# Altium footprint library PcbLib.PcbLib: 26 footprints (part 1 of 2)
Each footprint in its own frame and in the unit in brackets; x right, y up, seen from the top. Pads: shape width x height; smd on the part's side, far side on the other; paste and mask are expansions set on the pad; w line width, h text height; cw(c..) or ccw(c..) is an arc to the next point about the centre after c.
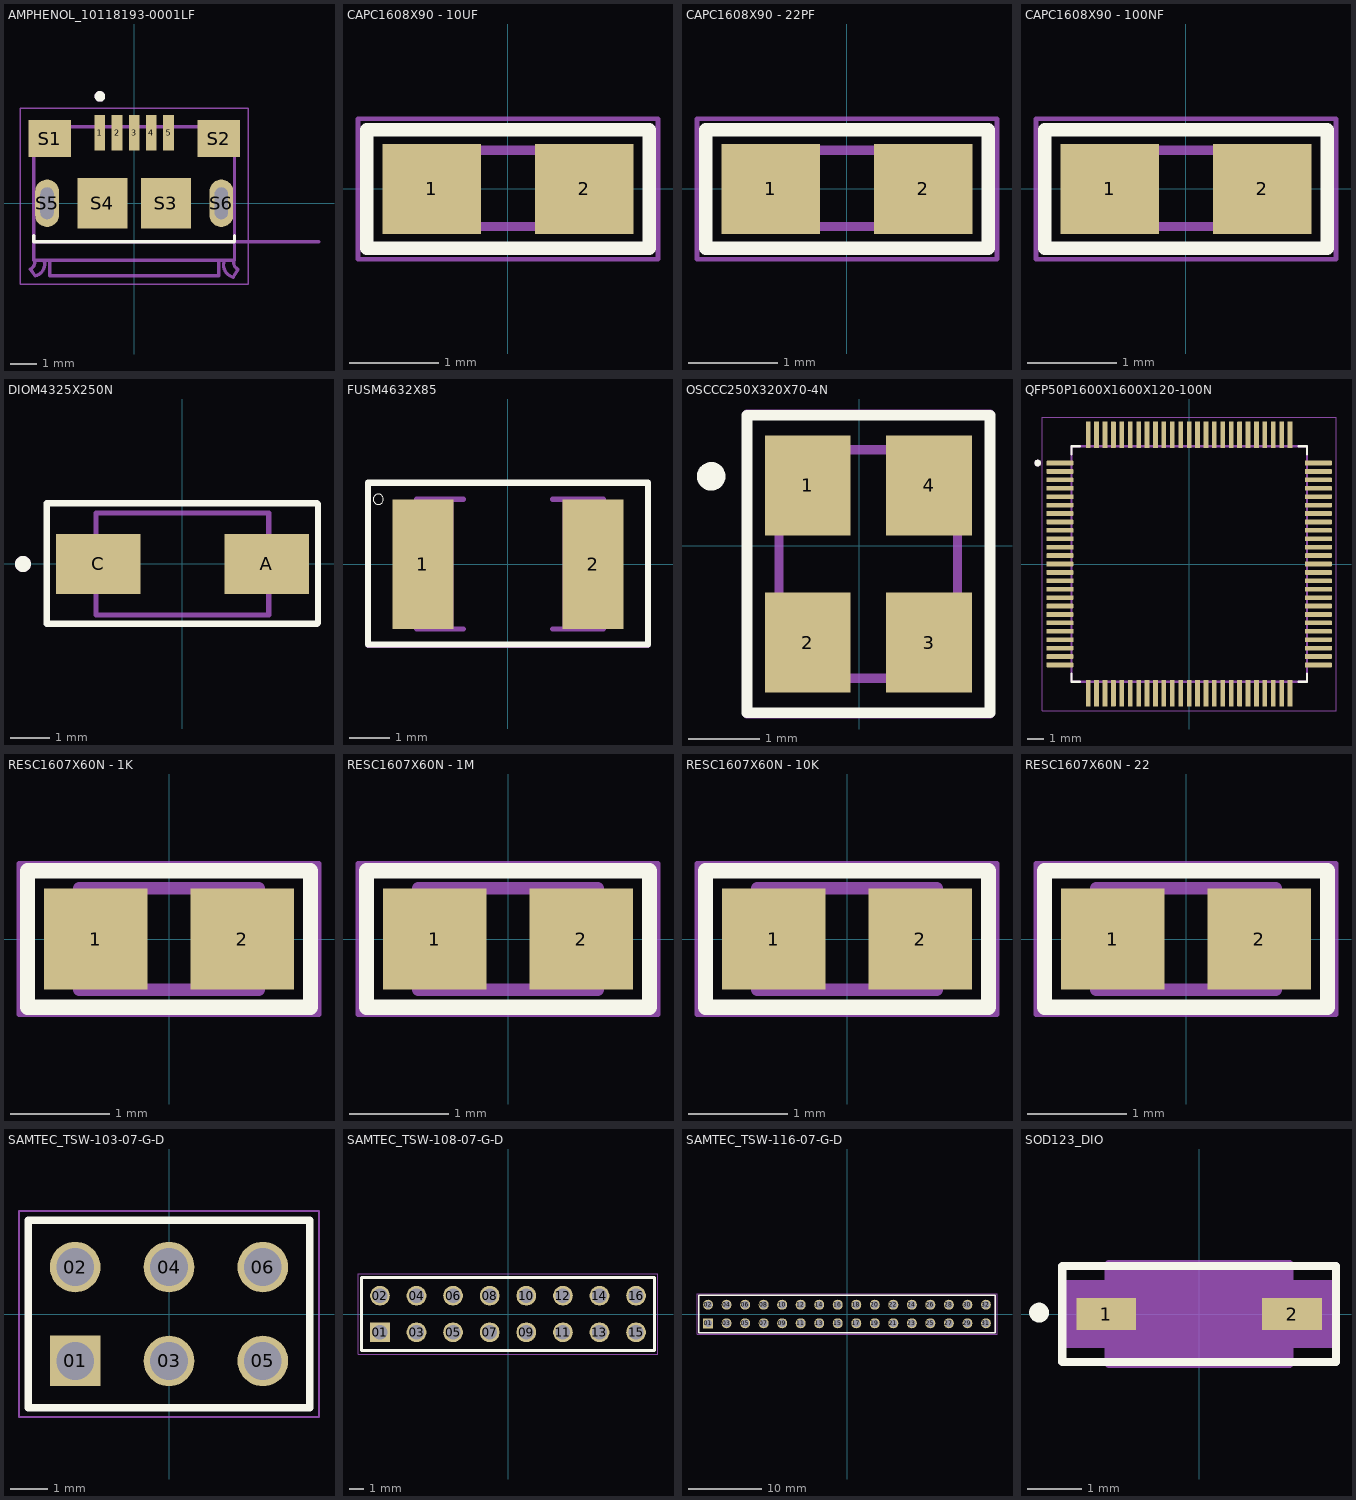
[diagram p0: the footprints below, top view; thin cyan lines are the x and y axes]

## AMPHENOL_10118193-0001LF [mm]
height 2.55
pads (11):
  rect 0.4x1.35 smd: 1(-1.3,2.675) 2(-0.65,2.675) 3(0,2.675) 4(0.65,2.675) 5(1.3,2.675)
  rect 1.6x1.4 smd: S1(-3.2,2.45) S2(3.2,2.45)
  rect 1.9x1.9 smd: S3(1.2,0) S4(-1.2,0)
  oval 0.9x1.8 hole 0.5 slot 1.2 at 90 deg: S5(-3.3,0) S6(3.3,0)
Top Overlay:
  circle w0.2: c-1.3,4.05 r0.1
  lines w0.127: -3.8,-1.22 -3.8,-1.45 3.8,-1.45 3.8,-1.22
Mechanical 13:
  circle w0.2: c-1.3,4.05 r0.1
  lines w0.127: -3.93,-2.5 -3.75,-2.75 ; -3.93,-2.5 ccw(c-4.065,-2.235) -3.8,-2.1 ; -3.8,-1.45 3.8,-1.45 ; -3.746,-2.749 ccw(c-3.85,-2.3) -3.401,-2.196 ; -3.2,-2.2 -3.2,-2.75 3.2,-2.75 3.2,-2.2 ; 3.401,-2.198 ccw(c3.875,-2.325) 3.748,-2.799 ; 3.75,-2.8 3.93,-2.5 ; 3.8,-2.1 ccw(c4.065,-2.235) 3.93,-2.5 ; 7,-1.45 3.8,-1.45 ; -3.8,-2.1 -3.8,-2.15 3.8,-2.15 3.8,-1.45 ; -3.8,-2.1 -3.8,2.9 3.8,2.9 3.8,-1.45
  text "PCB END" at 4.85,-1.2 h0.41
Mechanical 15:
  lines w0.05: -4.32,-3.066 -4.32,3.6 4.32,3.6 4.32,-3.066 -4.32,-3.066
3D body "10118193-0001LF--3DModel.STEP": height 2.85, standoff -0.75, extent -3.93,-2.76 3.93,2.95

## CAPC1608X90 - 10UF [mm]
pads (2):
  rect 1.1x1 smd: 1(-0.85,0) 2(0.85,0)
Top Overlay:
  lines w0.152: -1.575,-0.66 1.575,-0.66 1.575,0.66 -1.575,0.66 -1.575,-0.66
Mechanical 13:
  region: -0.338,-0.47 -0.839,-0.47 -0.839,0.48 -0.338,0.48
  region: 0.83,-0.471 0.331,-0.471 0.331,0.48 0.83,0.48
  lines w0.102: -0.356,-0.419 0.356,-0.419 ; -0.356,0.432 0.356,0.432
Mechanical 15:
  lines w0.051: -1.673,-0.783 1.673,-0.783 1.673,0.783 -1.673,0.783 -1.673,-0.783
3D body "CC0603MRX5R6BB106--3DModel.STEP": height 0.81, standoff 0.01, extent -0.808,-0.443 0.792,0.457

## CAPC1608X90 - 22PF [mm]
pads (2):
  rect 1.1x1 smd: 1(-0.85,0) 2(0.85,0)
Top Overlay:
  lines w0.152: -1.575,-0.66 1.575,-0.66 1.575,0.66 -1.575,0.66 -1.575,-0.66
Mechanical 13:
  region: -0.338,-0.471 -0.84,-0.471 -0.84,0.48 -0.338,0.48
  region: 0.83,-0.47 0.33,-0.47 0.33,0.48 0.83,0.48
  lines w0.102: -0.356,-0.419 0.356,-0.419 ; -0.356,0.432 0.356,0.432
Mechanical 15:
  lines w0.051: -1.673,-0.783 1.673,-0.783 1.673,0.783 -1.673,0.783 -1.673,-0.783
3D body "CC0603JRNPO9BN220--3DModel.STEP": height 0.81, standoff 0.01, extent -0.8,-0.443 0.8,0.457

## CAPC1608X90 - 100NF [mm]
pads (2):
  rect 1.1x1 smd: 1(-0.85,0) 2(0.85,0)
Top Overlay:
  lines w0.152: -1.575,-0.66 1.575,-0.66 1.575,0.66 -1.575,0.66 -1.575,-0.66
Mechanical 13:
  region: -0.338,-0.47 -0.839,-0.47 -0.839,0.48 -0.338,0.48
  region: 0.83,-0.471 0.331,-0.471 0.331,0.48 0.83,0.48
  lines w0.102: -0.356,-0.419 0.356,-0.419 ; -0.356,0.432 0.356,0.432
Mechanical 15:
  lines w0.051: -1.673,-0.783 1.673,-0.783 1.673,0.783 -1.673,0.783 -1.673,-0.783
3D body "CC0603KRX7R9BB104--3DModel.STEP": height 0.9, standoff 0, extent -0.8,-0.4 0.8,0.4

## DIOM4325X250N [mm]
height 2.5
pads (2):
  rect 2.12x1.5 smd paste+0 mask+0.102: A(2.115,0) C(-2.115,0)
Top Overlay:
  circle w0.2: c-4,0 r0.1
  lines w0.152: -3.404,-1.499 3.378,-1.499 3.404,-1.473 3.404,1.499 3.378,1.524 -3.404,1.524 -3.404,-1.499
Mechanical 13:
  circle w0.2: c-4,0 r0.1
  lines w0.127: -2.165,-1.28 2.165,-1.28 2.165,1.28 -2.165,1.28 -2.165,-1.28
Mechanical 15:
  lines w0.05: -3.425,-1.53 3.425,-1.53 3.425,1.53 -3.425,1.53 -3.425,-1.53
3D body "SS14--3DModel.STEP": height 2.5, standoff 0, extent -2.57,-1.255 2.57,1.305

## FUSM4632X85 [mm]
pads (2):
  rect 1.5x3.2 smd: 1(-2.1,0) 2(2.1,0)
Top Overlay:
  circle w0: c-3.2,1.6 r0.127
  lines w0.152: -3.454,-1.981 -3.454,2.007 3.454,2.007 3.454,-1.981 -3.454,-1.981
Mechanical 13:
  region: 2.35,0.5 2.324,0.499 2.298,0.497 2.272,0.494 2.246,0.489 2.221,0.483 2.195,0.476 2.171,0.467 2.147,0.457 2.123,0.446 2.1,0.433 2.078,0.419 2.056,0.405 2.035,0.389 2.015,0.372 1.996,0.354 1.978,0.335 1.961,0.315 1.945,0.294 1.931,0.272 1.917,0.25 1.904,0.227 1.893,0.203 1.883,0.179 1.874,0.155 1.867,0.129 1.861,0.104 1.856,0.078 1.853,0.052 1.851,0.026 1.85,0 1.851,-0.026 1.853,-0.052 1.856,-0.078 1.861,-0.104 1.867,-0.129 1.874,-0.155 1.883,-0.179 1.893,-0.203 1.904,-0.227 1.917,-0.25 1.931,-0.272 1.945,-0.294 1.961,-0.315 1.978,-0.335 1.996,-0.354 2.015,-0.372 2.035,-0.389 2.056,-0.405 2.078,-0.419 2.1,-0.433 2.123,-0.446 2.147,-0.457 2.171,-0.467 2.195,-0.476 2.221,-0.483 2.246,-0.489 2.272,-0.494 2.298,-0.497 2.324,-0.499 2.35,-0.5 2.35,-1.6 1.35,-1.6 1.35,1.6 2.35,1.6
  region: -1.35,-1.6 -2.25,-1.6 -2.25,-0.5 -2.224,-0.499 -2.198,-0.497 -2.172,-0.494 -2.146,-0.489 -2.121,-0.483 -2.095,-0.476 -2.071,-0.467 -2.047,-0.457 -2.023,-0.446 -2,-0.433 -1.978,-0.419 -1.956,-0.405 -1.935,-0.389 -1.915,-0.372 -1.896,-0.354 -1.878,-0.335 -1.861,-0.315 -1.845,-0.294 -1.831,-0.272 -1.817,-0.25 -1.804,-0.227 -1.793,-0.203 -1.783,-0.179 -1.774,-0.155 -1.767,-0.129 -1.761,-0.104 -1.756,-0.078 -1.753,-0.052 -1.751,-0.026 -1.75,0 -1.751,0.026 -1.753,0.052 -1.756,0.078 -1.761,0.104 -1.767,0.129 -1.774,0.155 -1.783,0.179 -1.793,0.203 -1.804,0.227 -1.817,0.25 -1.831,0.272 -1.845,0.294 -1.861,0.315 -1.878,0.335 -1.896,0.354 -1.915,0.372 -1.935,0.389 -1.956,0.405 -1.978,0.419 -2,0.433 -2.023,0.446 -2.047,0.457 -2.071,0.467 -2.095,0.476 -2.121,0.483 -2.146,0.489 -2.172,0.494 -2.198,0.497 -2.224,0.499 -2.25,0.5 -2.25,1.6 -1.35,1.6
  lines w0.127: -1.1,-1.6 -2.25,-1.6 -2.25,-0.5 ccw(c-2.25,0) -2.25,0.5 -2.25,1.6 -1.1,1.6 ; 1.1,-1.6 2.35,-1.6 2.35,-0.5 cw(c2.35,0) 2.35,0.5 2.35,1.6 1.1,1.6
Mechanical 15:
  lines w0.127: -3.45,-2 3.45,-2 3.45,2 -3.45,2 -3.45,-2
3D body "MF-MSMF050-2--3DModel.STEP": height 1.11, standoff 0.01, extent -2.275,-1.62 2.275,1.62

## OSCCC250X320X70-4N [mm]
pads (4):
  rect 1.2x1.4 smd: 1(-0.723,0.846) 2(-0.723,-1.354) 3(0.977,-1.354) 4(0.977,0.846)
Top Overlay:
  circle w0.2: c-2.073,0.973 r0.1
  lines w0.152: -1.575,-2.337 1.829,-2.337 1.829,1.829 -1.575,1.829 -1.575,-2.337
Mechanical 13:
  lines w0.127: -1.123,-1.854 1.377,-1.854 1.377,1.346 -1.123,1.346 -1.123,-1.854
Mechanical 15:
  lines w0.127: -1.573,-2.354 -1.573,1.846 1.827,1.846 1.827,-2.354 -1.573,-2.354
3D body "7M-12.000MAAJ-T--3DModel.STEP": height 0.8, standoff 0, extent -1.123,-1.854 1.377,1.346

## QFP50P1600X1600X120-100N [mm]
height 1.2
pads (100):
  rrect25% 1.6x0.28 smd: 1(-7.68,6) 2(-7.68,5.5) 3(-7.68,5) 4(-7.68,4.5) 5(-7.68,4) 6(-7.68,3.5) 7(-7.68,3) 8(-7.68,2.5) 9(-7.68,2) 10(-7.68,1.5) 11(-7.68,1) 12(-7.68,0.5) 13(-7.68,0) 14(-7.68,-0.5) 15(-7.68,-1) 16(-7.68,-1.5) 17(-7.68,-2) 18(-7.68,-2.5) 19(-7.68,-3) 20(-7.68,-3.5) 21(-7.68,-4) 22(-7.68,-4.5) 23(-7.68,-5) 24(-7.68,-5.5) 25(-7.68,-6) 51(7.68,-6) 52(7.68,-5.5) 53(7.68,-5) 54(7.68,-4.5) 55(7.68,-4) 56(7.68,-3.5) 57(7.68,-3) 58(7.68,-2.5) 59(7.68,-2) 60(7.68,-1.5) 61(7.68,-1) 62(7.68,-0.5) 63(7.68,0) 64(7.68,0.5) 65(7.68,1) 66(7.68,1.5) 67(7.68,2) 68(7.68,2.5) 69(7.68,3) 70(7.68,3.5) 71(7.68,4) 72(7.68,4.5) 73(7.68,5) 74(7.68,5.5) 75(7.68,6)
  rrect25% 0.28x1.6 smd: 26(-6,-7.68) 27(-5.5,-7.68) 28(-5,-7.68) 29(-4.5,-7.68) 30(-4,-7.68) 31(-3.5,-7.68) 32(-3,-7.68) 33(-2.5,-7.68) 34(-2,-7.68) 35(-1.5,-7.68) 36(-1,-7.68) 37(-0.5,-7.68) 38(0,-7.68) 39(0.5,-7.68) 40(1,-7.68) 41(1.5,-7.68) 42(2,-7.68) 43(2.5,-7.68) 44(3,-7.68) 45(3.5,-7.68) 46(4,-7.68) 47(4.5,-7.68) 48(5,-7.68) 49(5.5,-7.68) 50(6,-7.68) 76(6,7.68) 77(5.5,7.68) 78(5,7.68) 79(4.5,7.68) 80(4,7.68) 81(3.5,7.68) 82(3,7.68) 83(2.5,7.68) 84(2,7.68) 85(1.5,7.68) 86(1,7.68) 87(0.5,7.68) 88(0,7.68) 89(-0.5,7.68) 90(-1,7.68) 91(-1.5,7.68) 92(-2,7.68) 93(-2.5,7.68) 94(-3,7.68) 95(-3.5,7.68) 96(-4,7.68) 97(-4.5,7.68) 98(-5,7.68) 99(-5.5,7.68) 100(-6,7.68)
Top Overlay:
  circle w0.2: c-9,6 r0.1
  lines w0.127: -7,-6.5 -7,-7 -6.5,-7 ; -7,6.5 -7,7 -6.5,7 ; 6.5,-7 7,-7 7,-6.5 ; 6.5,7 7,7 7,6.5
Mechanical 13:
  circle w0.2: c-9,6 r0.1
  lines w0.127: -7,-7 -7,7 7,7 7,-7 -7,-7
Mechanical 15:
  lines w0.05: -8.73,-8.73 8.73,-8.73 8.73,8.73 -8.73,8.73 -8.73,-8.73
3D body "ATMEGA2560-16AU--3DModel.STEP": height 1.06, standoff -0.14, extent -8,-7.999 8,8.001

## RESC1607X60N - 1K [mm]
pads (2):
  rect 1.04x1.02 smd: 1(-0.735,0) 2(0.735,0)
Top Overlay:
  lines w0.152: -1.422,-0.686 -1.422,0.686 1.422,0.686 1.422,-0.686 -1.422,-0.686
Mechanical 13:
  lines w0.127: -0.9,-0.51 0.9,-0.51 0.9,0.51 -0.9,0.51 -0.9,-0.51
Mechanical 15:
  lines w0.05: -1.508,-0.761 1.508,-0.761 1.508,0.761 -1.508,0.761 -1.508,-0.761
3D body "RC0603FR-071KL--3DModel.STEP": height 0.55, standoff 0, extent -0.8,-0.4 0.8,0.4

## RESC1607X60N - 1M [mm]
pads (2):
  rect 1.04x1.02 smd: 1(-0.735,0) 2(0.735,0)
Top Overlay:
  lines w0.152: -1.422,-0.686 1.422,-0.686 1.422,0.686 -1.422,0.686 -1.422,-0.686
Mechanical 13:
  lines w0.127: -0.9,-0.51 -0.9,0.51 0.9,0.51 0.9,-0.51 -0.9,-0.51
Mechanical 15:
  lines w0.05: -1.508,-0.761 -1.508,0.761 1.508,0.761 1.508,-0.761 -1.508,-0.761
3D body "RC0603FR-071ML--3DModel.STEP": height 0.55, standoff 0, extent -0.8,-0.4 0.8,0.4

## RESC1607X60N - 10K [mm]
pads (2):
  rect 1.04x1.02 smd: 1(-0.735,0) 2(0.735,0)
Top Overlay:
  lines w0.152: -1.422,-0.686 -1.422,0.686 1.422,0.686 1.422,-0.686 -1.422,-0.686
Mechanical 13:
  lines w0.127: -0.9,-0.51 -0.9,0.51 0.9,0.51 0.9,-0.51 -0.9,-0.51
Mechanical 15:
  lines w0.05: -1.508,-0.761 -1.508,0.761 1.508,0.761 1.508,-0.761 -1.508,-0.761
3D body "RC0603FR-0710KL--3DModel.STEP": height 0.55, standoff 0, extent -0.8,-0.374 0.8,0.426

## RESC1607X60N - 22 [mm]
pads (2):
  rect 1.04x1.02 smd: 1(-0.735,0) 2(0.735,0)
Top Overlay:
  lines w0.152: -1.422,-0.686 -1.422,0.686 1.422,0.686 1.422,-0.686 -1.422,-0.686
Mechanical 13:
  lines w0.127: -0.9,-0.51 0.9,-0.51 0.9,0.51 -0.9,0.51 -0.9,-0.51
Mechanical 15:
  lines w0.05: -1.508,-0.761 1.508,-0.761 1.508,0.761 -1.508,0.761 -1.508,-0.761
3D body "RC0603FR-0722RL--3DModel.STEP": height 0.55, standoff 0, extent -0.8,-0.4 0.8,0.4

## SAMTEC_TSW-103-07-G-D [mm]
pads (6):
  rect 1.37x1.37 / inner round 1.37 / far side rect 1.37x1.37 hole 1.02: 01(-2.54,-1.27)
  round 1.37 hole 1.02: 02(-2.54,1.27) 03(0,-1.27) 04(0,1.27) 05(2.54,-1.27) 06(2.54,1.27)
Top Overlay:
  lines w0.2: -3.81,-2.54 3.81,-2.54 3.81,2.54 -3.81,2.54 -3.81,-2.54
Mechanical 13:
  lines w0.1: -3.81,-2.54 -3.81,2.54 ; -3.81,-2.54 3.81,-2.54 ; -3.81,-2.54 -3.81,2.54 ; -3.81,2.54 3.81,2.54 ; -3.81,2.54 3.81,2.54 ; 3.81,-2.54 3.81,2.54 ; 3.81,-2.54 3.81,2.54
Mechanical 15:
  lines w0.05: -4.06,-2.79 4.06,-2.79 4.06,2.79 -4.06,2.79 -4.06,-2.79
3D body "TSW-103-07-G-D--3DModel.STEP": height 8.38, standoff -2.54, extent -3.81,-2.54 3.81,2.54

## SAMTEC_TSW-108-07-G-D [mm]
pads (16):
  rect 1.37x1.37 / inner round 1.37 / far side rect 1.37x1.37 hole 1.02: 01(-8.89,-1.27)
  round 1.37 hole 1.02: 02(-8.89,1.27) 03(-6.35,-1.27) 04(-6.35,1.27) 05(-3.81,-1.27) 06(-3.81,1.27) 07(-1.27,-1.27) 08(-1.27,1.27) 09(1.27,-1.27) 10(1.27,1.27) 11(3.81,-1.27) 12(3.81,1.27) 13(6.35,-1.27) 14(6.35,1.27) 15(8.89,-1.27) 16(8.89,1.27)
Top Overlay:
  lines w0.2: -10.16,-2.54 10.16,-2.54 10.16,2.54 -10.16,2.54 -10.16,-2.54
Mechanical 13:
  lines w0.1: -10.16,-2.54 -10.16,2.54 ; -10.16,-2.54 10.16,-2.54 ; -10.16,-2.54 -10.16,2.54 ; -10.16,2.54 10.16,2.54 ; -10.16,2.54 10.16,2.54 ; 10.16,-2.54 10.16,2.54 ; 10.16,-2.54 10.16,2.54
Mechanical 15:
  lines w0.05: -10.41,-2.79 10.41,-2.79 10.41,2.79 -10.41,2.79 -10.41,-2.79
3D body "TSW-108-07-G-D--3DModel.STEP": height 8.38, standoff -2.54, extent -10.236,-2.591 10.084,2.489

## SAMTEC_TSW-116-07-G-D [mm]
pads (32):
  rect 1.37x1.37 hole 1.02: 01(-19.05,-1.27)
  round 1.37 hole 1.02: 02(-19.05,1.27) 03(-16.51,-1.27) 04(-16.51,1.27) 05(-13.97,-1.27) 06(-13.97,1.27) 07(-11.43,-1.27) 08(-11.43,1.27) 09(-8.89,-1.27) 10(-8.89,1.27) 11(-6.35,-1.27) 12(-6.35,1.27) 13(-3.81,-1.27) 14(-3.81,1.27) 15(-1.27,-1.27) 16(-1.27,1.27) 17(1.27,-1.27) 18(1.27,1.27) 19(3.81,-1.27) 20(3.81,1.27) 21(6.35,-1.27) 22(6.35,1.27) 23(8.89,-1.27) 24(8.89,1.27) 25(11.43,-1.27) 26(11.43,1.27) 27(13.97,-1.27) 28(13.97,1.27) 29(16.51,-1.27) 30(16.51,1.27) 31(19.05,-1.27) 32(19.05,1.27)
Top Overlay:
  lines w0.2: -20.32,-2.54 -20.32,2.54 20.32,2.54 20.32,-2.54 -20.32,-2.54
Mechanical 13:
  lines w0.1: -20.32,-2.54 -20.32,2.54 ; -20.32,-2.54 20.32,-2.54 ; -20.32,-2.54 -20.32,2.54 ; -20.32,2.54 20.32,2.54 ; -20.32,2.54 20.32,2.54 ; 20.32,-2.54 20.32,2.54 ; 20.32,-2.54 20.32,2.54
Mechanical 15:
  lines w0.05: -20.57,-2.79 -20.57,2.79 20.57,2.79 20.57,-2.79 -20.57,-2.79
3D body "TSW-116-07-G-D--3DModel.STEP": height 8.38, standoff -2.54, extent -20.32,-2.464 20.32,2.616

## SOD123_DIO [mm]
pads (2):
  rect 1.111x0.601 smd paste+0 mask+0: 1(-1.725,0) 2(1.725,0)
Top Overlay:
  circle w0.254: c-2.972,0.025 r0.057
  lines w0.152: -2.54,-0.889 2.54,-0.889 2.54,0.889 -2.54,0.889 -2.54,-0.889
Mechanical 13:
  lines w0.025: -1.425,-0.337 -1.087,-0.675 ; -1.425,0.337 -1.087,0.675 ; -1.925,-0.275 -1.425,-0.275 -1.425,0.275 -1.925,0.275 -1.925,-0.275 ; -1.425,-0.675 -1.425,0.675 1.425,0.675 1.425,-0.675 -1.425,-0.675 ; 1.425,-0.275 1.925,-0.275 1.925,0.275 1.425,0.275 1.425,-0.275
Mechanical 15:
  region: -1.679,-0.554 -2.535,-0.554 -2.535,0.554 -1.679,0.554 -1.679,0.929 1.679,0.929 1.679,0.554 2.535,0.554 2.535,-0.554 1.679,-0.554 1.679,-0.929 -1.679,-0.929
  lines w0.152: -2.535,-0.554 -1.679,-0.554 -1.679,-0.929 1.679,-0.929 1.679,-0.554 2.535,-0.554 2.535,0.554 1.679,0.554 1.679,0.929 -1.679,0.929 -1.679,0.554 -2.535,0.554 -2.535,-0.554
3D body "1N4148W-SOD123_DIO--3DModel.step": height 0.81, standoff 0, extent -1.93,-0.66 1.92,0.69